# Altium integrated library Altium Database Library V2.IntLib: 825 symbols (part 33 of 40)

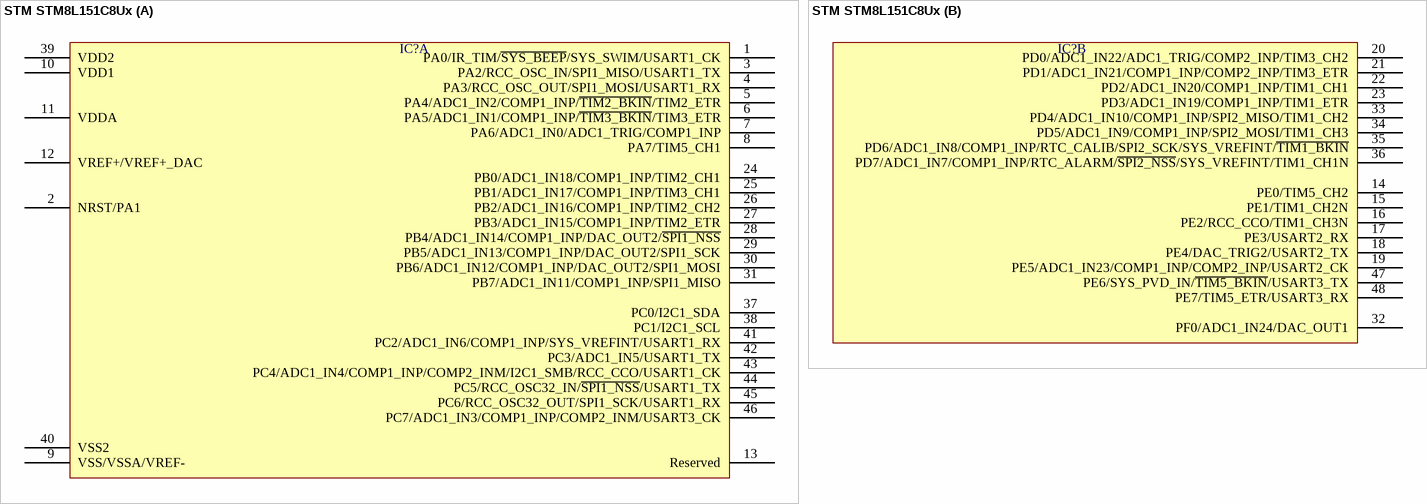
[diagram p656: symbol STM STM8L151C8Ux]

## STM STM8L151C8Ux
designator IC?  (value not drawn)
part A pins: 1 PA0/IR_TIM/~{SYS_BEEP}/SYS_SWIM/USART1_CK, 2 NRST/PA1, 3 PA2/RCC_OSC_IN/SPI1_MISO/USART1_TX, 4 PA3/RCC_OSC_OUT/SPI1_MOSI/USART1_RX, 5 PA4/ADC1_IN2/COMP1_INP/~{TIM2_BKIN}/TIM2_ETR, 6 PA5/ADC1_IN1/COMP1_INP/~{TIM3_BKIN}/TIM3_ETR, 7 PA6/ADC1_IN0/ADC1_TRIG/COMP1_INP, 8 PA7/TIM5_CH1, 9 VSS/VSSA/VREF-, 10 VDD1, 11 VDDA, 12 VREF+/VREF+_DAC, 13 Reserved, 24 PB0/ADC1_IN18/COMP1_INP/TIM2_CH1, 25 PB1/ADC1_IN17/COMP1_INP/TIM3_CH1, 26 PB2/ADC1_IN16/COMP1_INP/TIM2_CH2, 27 PB3/ADC1_IN15/COMP1_INP/TIM2_ETR, 28 PB4/ADC1_IN14/COMP1_INP/DAC_OUT2/~{SPI1_NSS}, 29 PB5/ADC1_IN13/COMP1_INP/DAC_OUT2/SPI1_SCK, 30 PB6/ADC1_IN12/COMP1_INP/DAC_OUT2/SPI1_MOSI, 31 PB7/ADC1_IN11/COMP1_INP/SPI1_MISO, 37 PC0/I2C1_SDA, 38 PC1/I2C1_SCL, 39 VDD2, 40 VSS2, 41 PC2/ADC1_IN6/COMP1_INP/SYS_VREFINT/USART1_RX, 42 PC3/ADC1_IN5/USART1_TX, 43 PC4/ADC1_IN4/COMP1_INP/COMP2_INM/I2C1_SMB/RCC_CCO/USART1_CK, 44 PC5/RCC_OSC32_IN/~{SPI1_NSS}/USART1_TX, 45 PC6/RCC_OSC32_OUT/SPI1_SCK/USART1_RX, 46 PC7/ADC1_IN3/COMP1_INP/COMP2_INM/USART3_CK
part B pins: 14 PE0/TIM5_CH2, 15 PE1/TIM1_CH2N, 16 PE2/RCC_CCO/TIM1_CH3N, 17 PE3/USART2_RX, 18 PE4/DAC_TRIG2/USART2_TX, 19 PE5/ADC1_IN23/COMP1_INP/COMP2_INP/USART2_CK, 20 PD0/ADC1_IN22/ADC1_TRIG/COMP2_INP/TIM3_CH2, 21 PD1/ADC1_IN21/COMP1_INP/COMP2_INP/TIM3_ETR, 22 PD2/ADC1_IN20/COMP1_INP/TIM1_CH1, 23 PD3/ADC1_IN19/COMP1_INP/TIM1_ETR, 32 PF0/ADC1_IN24/DAC_OUT1, 33 PD4/ADC1_IN10/COMP1_INP/SPI2_MISO/TIM1_CH2, 34 PD5/ADC1_IN9/COMP1_INP/SPI2_MOSI/TIM1_CH3, 35 PD6/ADC1_IN8/COMP1_INP/RTC_CALIB/SPI2_SCK/SYS_VREFINT/~{TIM1_BKIN}, 36 PD7/ADC1_IN7/COMP1_INP/RTC_ALARM/~{SPI2_NSS}/SYS_VREFINT/TIM1_CH1N, 47 PE6/SYS_PVD_IN/~{TIM5_BKIN}/USART3_TX, 48 PE7/TIM5_ETR/USART3_RX


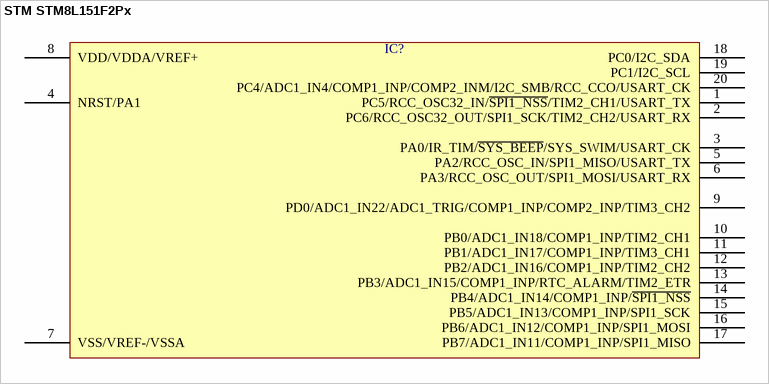
[diagram p657: symbol STM STM8L151F2Px]

## STM STM8L151F2Px
designator IC?  (value not drawn)
pins: 1 PC5/RCC_OSC32_IN/~{SPI1_NSS}/TIM2_CH1/USART_TX, 2 PC6/RCC_OSC32_OUT/SPI1_SCK/TIM2_CH2/USART_RX, 3 PA0/IR_TIM/~{SYS_BEEP}/SYS_SWIM/USART_CK, 4 NRST/PA1, 5 PA2/RCC_OSC_IN/SPI1_MISO/USART_TX, 6 PA3/RCC_OSC_OUT/SPI1_MOSI/USART_RX, 7 VSS/VREF-/VSSA, 8 VDD/VDDA/VREF+, 9 PD0/ADC1_IN22/ADC1_TRIG/COMP1_INP/COMP2_INP/TIM3_CH2, 10 PB0/ADC1_IN18/COMP1_INP/TIM2_CH1, 11 PB1/ADC1_IN17/COMP1_INP/TIM3_CH1, 12 PB2/ADC1_IN16/COMP1_INP/TIM2_CH2, 13 PB3/ADC1_IN15/COMP1_INP/RTC_ALARM/TIM2_ETR, 14 PB4/ADC1_IN14/COMP1_INP/~{SPI1_NSS}, 15 PB5/ADC1_IN13/COMP1_INP/SPI1_SCK, 16 PB6/ADC1_IN12/COMP1_INP/SPI1_MOSI, 17 PB7/ADC1_IN11/COMP1_INP/SPI1_MISO, 18 PC0/I2C_SDA, 19 PC1/I2C_SCL, 20 PC4/ADC1_IN4/COMP1_INP/COMP2_INM/I2C_SMB/RCC_CCO/USART_CK


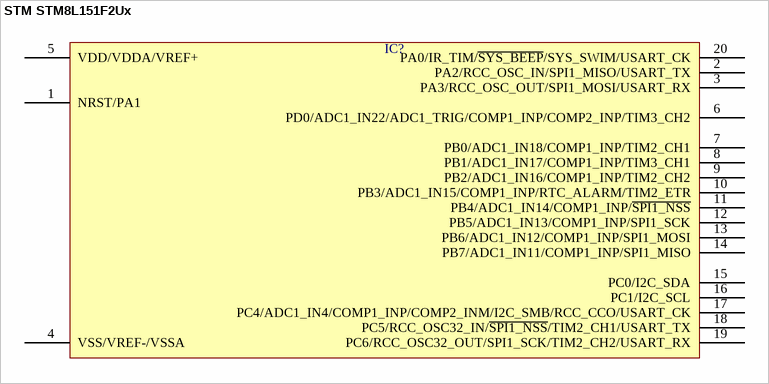
[diagram p658: symbol STM STM8L151F2Ux]

## STM STM8L151F2Ux
designator IC?  (value not drawn)
pins: 1 NRST/PA1, 2 PA2/RCC_OSC_IN/SPI1_MISO/USART_TX, 3 PA3/RCC_OSC_OUT/SPI1_MOSI/USART_RX, 4 VSS/VREF-/VSSA, 5 VDD/VDDA/VREF+, 6 PD0/ADC1_IN22/ADC1_TRIG/COMP1_INP/COMP2_INP/TIM3_CH2, 7 PB0/ADC1_IN18/COMP1_INP/TIM2_CH1, 8 PB1/ADC1_IN17/COMP1_INP/TIM3_CH1, 9 PB2/ADC1_IN16/COMP1_INP/TIM2_CH2, 10 PB3/ADC1_IN15/COMP1_INP/RTC_ALARM/TIM2_ETR, 11 PB4/ADC1_IN14/COMP1_INP/~{SPI1_NSS}, 12 PB5/ADC1_IN13/COMP1_INP/SPI1_SCK, 13 PB6/ADC1_IN12/COMP1_INP/SPI1_MOSI, 14 PB7/ADC1_IN11/COMP1_INP/SPI1_MISO, 15 PC0/I2C_SDA, 16 PC1/I2C_SCL, 17 PC4/ADC1_IN4/COMP1_INP/COMP2_INM/I2C_SMB/RCC_CCO/USART_CK, 18 PC5/RCC_OSC32_IN/~{SPI1_NSS}/TIM2_CH1/USART_TX, 19 PC6/RCC_OSC32_OUT/SPI1_SCK/TIM2_CH2/USART_RX, 20 PA0/IR_TIM/~{SYS_BEEP}/SYS_SWIM/USART_CK


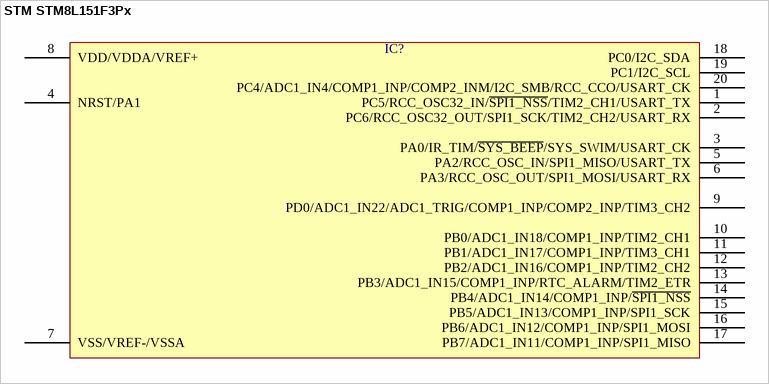
[diagram p659: symbol STM STM8L151F3Px]

## STM STM8L151F3Px
designator IC?  (value not drawn)
pins: 1 PC5/RCC_OSC32_IN/~{SPI1_NSS}/TIM2_CH1/USART_TX, 2 PC6/RCC_OSC32_OUT/SPI1_SCK/TIM2_CH2/USART_RX, 3 PA0/IR_TIM/~{SYS_BEEP}/SYS_SWIM/USART_CK, 4 NRST/PA1, 5 PA2/RCC_OSC_IN/SPI1_MISO/USART_TX, 6 PA3/RCC_OSC_OUT/SPI1_MOSI/USART_RX, 7 VSS/VREF-/VSSA, 8 VDD/VDDA/VREF+, 9 PD0/ADC1_IN22/ADC1_TRIG/COMP1_INP/COMP2_INP/TIM3_CH2, 10 PB0/ADC1_IN18/COMP1_INP/TIM2_CH1, 11 PB1/ADC1_IN17/COMP1_INP/TIM3_CH1, 12 PB2/ADC1_IN16/COMP1_INP/TIM2_CH2, 13 PB3/ADC1_IN15/COMP1_INP/RTC_ALARM/TIM2_ETR, 14 PB4/ADC1_IN14/COMP1_INP/~{SPI1_NSS}, 15 PB5/ADC1_IN13/COMP1_INP/SPI1_SCK, 16 PB6/ADC1_IN12/COMP1_INP/SPI1_MOSI, 17 PB7/ADC1_IN11/COMP1_INP/SPI1_MISO, 18 PC0/I2C_SDA, 19 PC1/I2C_SCL, 20 PC4/ADC1_IN4/COMP1_INP/COMP2_INM/I2C_SMB/RCC_CCO/USART_CK


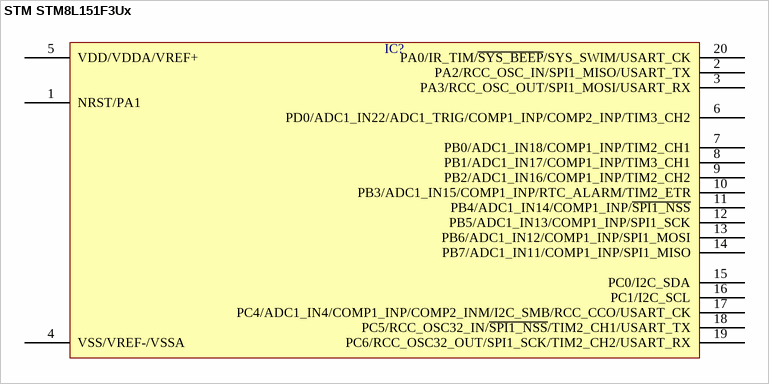
[diagram p660: symbol STM STM8L151F3Ux]

## STM STM8L151F3Ux
designator IC?  (value not drawn)
pins: 1 NRST/PA1, 2 PA2/RCC_OSC_IN/SPI1_MISO/USART_TX, 3 PA3/RCC_OSC_OUT/SPI1_MOSI/USART_RX, 4 VSS/VREF-/VSSA, 5 VDD/VDDA/VREF+, 6 PD0/ADC1_IN22/ADC1_TRIG/COMP1_INP/COMP2_INP/TIM3_CH2, 7 PB0/ADC1_IN18/COMP1_INP/TIM2_CH1, 8 PB1/ADC1_IN17/COMP1_INP/TIM3_CH1, 9 PB2/ADC1_IN16/COMP1_INP/TIM2_CH2, 10 PB3/ADC1_IN15/COMP1_INP/RTC_ALARM/TIM2_ETR, 11 PB4/ADC1_IN14/COMP1_INP/~{SPI1_NSS}, 12 PB5/ADC1_IN13/COMP1_INP/SPI1_SCK, 13 PB6/ADC1_IN12/COMP1_INP/SPI1_MOSI, 14 PB7/ADC1_IN11/COMP1_INP/SPI1_MISO, 15 PC0/I2C_SDA, 16 PC1/I2C_SCL, 17 PC4/ADC1_IN4/COMP1_INP/COMP2_INM/I2C_SMB/RCC_CCO/USART_CK, 18 PC5/RCC_OSC32_IN/~{SPI1_NSS}/TIM2_CH1/USART_TX, 19 PC6/RCC_OSC32_OUT/SPI1_SCK/TIM2_CH2/USART_RX, 20 PA0/IR_TIM/~{SYS_BEEP}/SYS_SWIM/USART_CK


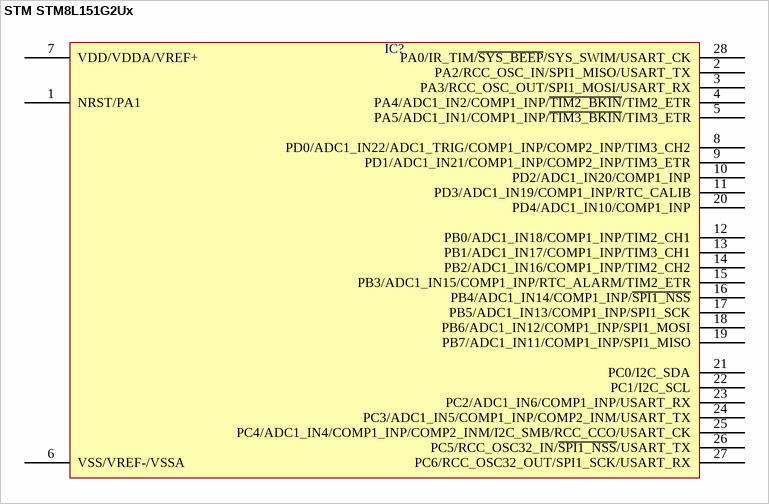
[diagram p661: symbol STM STM8L151G2Ux]

## STM STM8L151G2Ux
designator IC?  (value not drawn)
pins: 1 NRST/PA1, 2 PA2/RCC_OSC_IN/SPI1_MISO/USART_TX, 3 PA3/RCC_OSC_OUT/SPI1_MOSI/USART_RX, 4 PA4/ADC1_IN2/COMP1_INP/~{TIM2_BKIN}/TIM2_ETR, 5 PA5/ADC1_IN1/COMP1_INP/~{TIM3_BKIN}/TIM3_ETR, 6 VSS/VREF-/VSSA, 7 VDD/VDDA/VREF+, 8 PD0/ADC1_IN22/ADC1_TRIG/COMP1_INP/COMP2_INP/TIM3_CH2, 9 PD1/ADC1_IN21/COMP1_INP/COMP2_INP/TIM3_ETR, 10 PD2/ADC1_IN20/COMP1_INP, 11 PD3/ADC1_IN19/COMP1_INP/RTC_CALIB, 12 PB0/ADC1_IN18/COMP1_INP/TIM2_CH1, 13 PB1/ADC1_IN17/COMP1_INP/TIM3_CH1, 14 PB2/ADC1_IN16/COMP1_INP/TIM2_CH2, 15 PB3/ADC1_IN15/COMP1_INP/RTC_ALARM/TIM2_ETR, 16 PB4/ADC1_IN14/COMP1_INP/~{SPI1_NSS}, 17 PB5/ADC1_IN13/COMP1_INP/SPI1_SCK, 18 PB6/ADC1_IN12/COMP1_INP/SPI1_MOSI, 19 PB7/ADC1_IN11/COMP1_INP/SPI1_MISO, 20 PD4/ADC1_IN10/COMP1_INP, 21 PC0/I2C_SDA, 22 PC1/I2C_SCL, 23 PC2/ADC1_IN6/COMP1_INP/USART_RX, 24 PC3/ADC1_IN5/COMP1_INP/COMP2_INM/USART_TX, 25 PC4/ADC1_IN4/COMP1_INP/COMP2_INM/I2C_SMB/RCC_CCO/USART_CK, 26 PC5/RCC_OSC32_IN/~{SPI1_NSS}/USART_TX, 27 PC6/RCC_OSC32_OUT/SPI1_SCK/USART_RX, 28 PA0/IR_TIM/~{SYS_BEEP}/SYS_SWIM/USART_CK


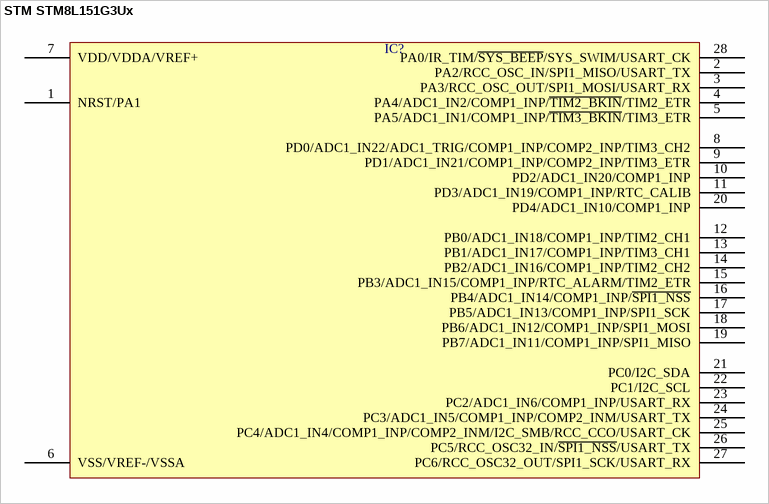
[diagram p662: symbol STM STM8L151G3Ux]

## STM STM8L151G3Ux
designator IC?  (value not drawn)
pins: 1 NRST/PA1, 2 PA2/RCC_OSC_IN/SPI1_MISO/USART_TX, 3 PA3/RCC_OSC_OUT/SPI1_MOSI/USART_RX, 4 PA4/ADC1_IN2/COMP1_INP/~{TIM2_BKIN}/TIM2_ETR, 5 PA5/ADC1_IN1/COMP1_INP/~{TIM3_BKIN}/TIM3_ETR, 6 VSS/VREF-/VSSA, 7 VDD/VDDA/VREF+, 8 PD0/ADC1_IN22/ADC1_TRIG/COMP1_INP/COMP2_INP/TIM3_CH2, 9 PD1/ADC1_IN21/COMP1_INP/COMP2_INP/TIM3_ETR, 10 PD2/ADC1_IN20/COMP1_INP, 11 PD3/ADC1_IN19/COMP1_INP/RTC_CALIB, 12 PB0/ADC1_IN18/COMP1_INP/TIM2_CH1, 13 PB1/ADC1_IN17/COMP1_INP/TIM3_CH1, 14 PB2/ADC1_IN16/COMP1_INP/TIM2_CH2, 15 PB3/ADC1_IN15/COMP1_INP/RTC_ALARM/TIM2_ETR, 16 PB4/ADC1_IN14/COMP1_INP/~{SPI1_NSS}, 17 PB5/ADC1_IN13/COMP1_INP/SPI1_SCK, 18 PB6/ADC1_IN12/COMP1_INP/SPI1_MOSI, 19 PB7/ADC1_IN11/COMP1_INP/SPI1_MISO, 20 PD4/ADC1_IN10/COMP1_INP, 21 PC0/I2C_SDA, 22 PC1/I2C_SCL, 23 PC2/ADC1_IN6/COMP1_INP/USART_RX, 24 PC3/ADC1_IN5/COMP1_INP/COMP2_INM/USART_TX, 25 PC4/ADC1_IN4/COMP1_INP/COMP2_INM/I2C_SMB/RCC_CCO/USART_CK, 26 PC5/RCC_OSC32_IN/~{SPI1_NSS}/USART_TX, 27 PC6/RCC_OSC32_OUT/SPI1_SCK/USART_RX, 28 PA0/IR_TIM/~{SYS_BEEP}/SYS_SWIM/USART_CK


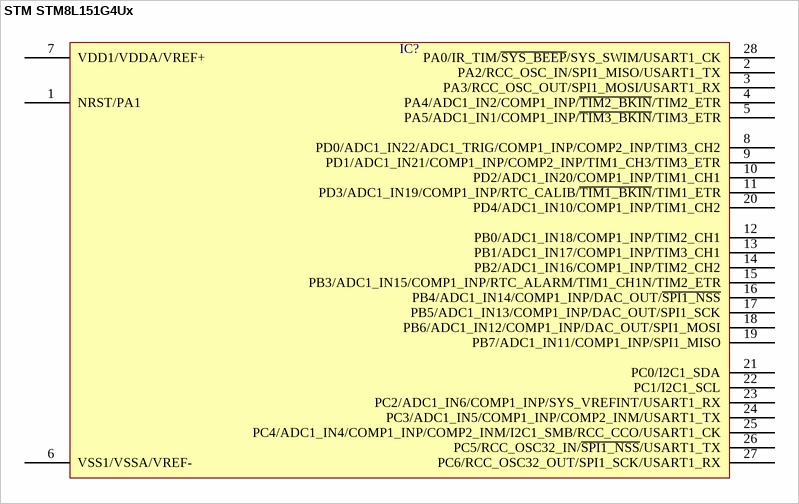
[diagram p663: symbol STM STM8L151G4Ux]

## STM STM8L151G4Ux
designator IC?  (value not drawn)
pins: 1 NRST/PA1, 2 PA2/RCC_OSC_IN/SPI1_MISO/USART1_TX, 3 PA3/RCC_OSC_OUT/SPI1_MOSI/USART1_RX, 4 PA4/ADC1_IN2/COMP1_INP/~{TIM2_BKIN}/TIM2_ETR, 5 PA5/ADC1_IN1/COMP1_INP/~{TIM3_BKIN}/TIM3_ETR, 6 VSS1/VSSA/VREF-, 7 VDD1/VDDA/VREF+, 8 PD0/ADC1_IN22/ADC1_TRIG/COMP1_INP/COMP2_INP/TIM3_CH2, 9 PD1/ADC1_IN21/COMP1_INP/COMP2_INP/TIM1_CH3/TIM3_ETR, 10 PD2/ADC1_IN20/COMP1_INP/TIM1_CH1, 11 PD3/ADC1_IN19/COMP1_INP/RTC_CALIB/~{TIM1_BKIN}/TIM1_ETR, 12 PB0/ADC1_IN18/COMP1_INP/TIM2_CH1, 13 PB1/ADC1_IN17/COMP1_INP/TIM3_CH1, 14 PB2/ADC1_IN16/COMP1_INP/TIM2_CH2, 15 PB3/ADC1_IN15/COMP1_INP/RTC_ALARM/TIM1_CH1N/TIM2_ETR, 16 PB4/ADC1_IN14/COMP1_INP/DAC_OUT/~{SPI1_NSS}, 17 PB5/ADC1_IN13/COMP1_INP/DAC_OUT/SPI1_SCK, 18 PB6/ADC1_IN12/COMP1_INP/DAC_OUT/SPI1_MOSI, 19 PB7/ADC1_IN11/COMP1_INP/SPI1_MISO, 20 PD4/ADC1_IN10/COMP1_INP/TIM1_CH2, 21 PC0/I2C1_SDA, 22 PC1/I2C1_SCL, 23 PC2/ADC1_IN6/COMP1_INP/SYS_VREFINT/USART1_RX, 24 PC3/ADC1_IN5/COMP1_INP/COMP2_INM/USART1_TX, 25 PC4/ADC1_IN4/COMP1_INP/COMP2_INM/I2C1_SMB/RCC_CCO/USART1_CK, 26 PC5/RCC_OSC32_IN/~{SPI1_NSS}/USART1_TX, 27 PC6/RCC_OSC32_OUT/SPI1_SCK/USART1_RX, 28 PA0/IR_TIM/~{SYS_BEEP}/SYS_SWIM/USART1_CK


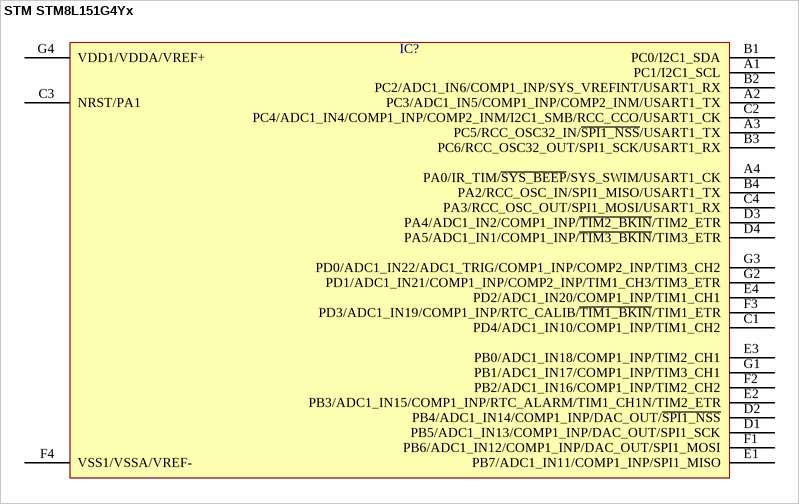
[diagram p664: symbol STM STM8L151G4Yx]

## STM STM8L151G4Yx
designator IC?  (value not drawn)
pins: A1 PC1/I2C1_SCL, A2 PC3/ADC1_IN5/COMP1_INP/COMP2_INM/USART1_TX, A3 PC5/RCC_OSC32_IN/~{SPI1_NSS}/USART1_TX, A4 PA0/IR_TIM/~{SYS_BEEP}/SYS_SWIM/USART1_CK, B1 PC0/I2C1_SDA, B2 PC2/ADC1_IN6/COMP1_INP/SYS_VREFINT/USART1_RX, B3 PC6/RCC_OSC32_OUT/SPI1_SCK/USART1_RX, B4 PA2/RCC_OSC_IN/SPI1_MISO/USART1_TX, C1 PD4/ADC1_IN10/COMP1_INP/TIM1_CH2, C2 PC4/ADC1_IN4/COMP1_INP/COMP2_INM/I2C1_SMB/RCC_CCO/USART1_CK, C3 NRST/PA1, C4 PA3/RCC_OSC_OUT/SPI1_MOSI/USART1_RX, D1 PB5/ADC1_IN13/COMP1_INP/DAC_OUT/SPI1_SCK, D2 PB4/ADC1_IN14/COMP1_INP/DAC_OUT/~{SPI1_NSS}, D3 PA4/ADC1_IN2/COMP1_INP/~{TIM2_BKIN}/TIM2_ETR, D4 PA5/ADC1_IN1/COMP1_INP/~{TIM3_BKIN}/TIM3_ETR, E1 PB7/ADC1_IN11/COMP1_INP/SPI1_MISO, E2 PB3/ADC1_IN15/COMP1_INP/RTC_ALARM/TIM1_CH1N/TIM2_ETR, E3 PB0/ADC1_IN18/COMP1_INP/TIM2_CH1, E4 PD2/ADC1_IN20/COMP1_INP/TIM1_CH1, F1 PB6/ADC1_IN12/COMP1_INP/DAC_OUT/SPI1_MOSI, F2 PB2/ADC1_IN16/COMP1_INP/TIM2_CH2, F3 PD3/ADC1_IN19/COMP1_INP/RTC_CALIB/~{TIM1_BKIN}/TIM1_ETR, F4 VSS1/VSSA/VREF-, G1 PB1/ADC1_IN17/COMP1_INP/TIM3_CH1, G2 PD1/ADC1_IN21/COMP1_INP/COMP2_INP/TIM1_CH3/TIM3_ETR, G3 PD0/ADC1_IN22/ADC1_TRIG/COMP1_INP/COMP2_INP/TIM3_CH2, G4 VDD1/VDDA/VREF+


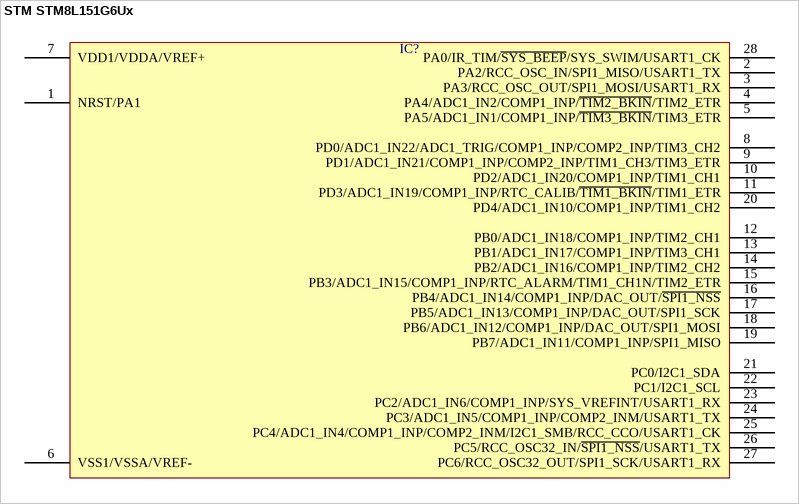
[diagram p665: symbol STM STM8L151G6Ux]

## STM STM8L151G6Ux
designator IC?  (value not drawn)
pins: 1 NRST/PA1, 2 PA2/RCC_OSC_IN/SPI1_MISO/USART1_TX, 3 PA3/RCC_OSC_OUT/SPI1_MOSI/USART1_RX, 4 PA4/ADC1_IN2/COMP1_INP/~{TIM2_BKIN}/TIM2_ETR, 5 PA5/ADC1_IN1/COMP1_INP/~{TIM3_BKIN}/TIM3_ETR, 6 VSS1/VSSA/VREF-, 7 VDD1/VDDA/VREF+, 8 PD0/ADC1_IN22/ADC1_TRIG/COMP1_INP/COMP2_INP/TIM3_CH2, 9 PD1/ADC1_IN21/COMP1_INP/COMP2_INP/TIM1_CH3/TIM3_ETR, 10 PD2/ADC1_IN20/COMP1_INP/TIM1_CH1, 11 PD3/ADC1_IN19/COMP1_INP/RTC_CALIB/~{TIM1_BKIN}/TIM1_ETR, 12 PB0/ADC1_IN18/COMP1_INP/TIM2_CH1, 13 PB1/ADC1_IN17/COMP1_INP/TIM3_CH1, 14 PB2/ADC1_IN16/COMP1_INP/TIM2_CH2, 15 PB3/ADC1_IN15/COMP1_INP/RTC_ALARM/TIM1_CH1N/TIM2_ETR, 16 PB4/ADC1_IN14/COMP1_INP/DAC_OUT/~{SPI1_NSS}, 17 PB5/ADC1_IN13/COMP1_INP/DAC_OUT/SPI1_SCK, 18 PB6/ADC1_IN12/COMP1_INP/DAC_OUT/SPI1_MOSI, 19 PB7/ADC1_IN11/COMP1_INP/SPI1_MISO, 20 PD4/ADC1_IN10/COMP1_INP/TIM1_CH2, 21 PC0/I2C1_SDA, 22 PC1/I2C1_SCL, 23 PC2/ADC1_IN6/COMP1_INP/SYS_VREFINT/USART1_RX, 24 PC3/ADC1_IN5/COMP1_INP/COMP2_INM/USART1_TX, 25 PC4/ADC1_IN4/COMP1_INP/COMP2_INM/I2C1_SMB/RCC_CCO/USART1_CK, 26 PC5/RCC_OSC32_IN/~{SPI1_NSS}/USART1_TX, 27 PC6/RCC_OSC32_OUT/SPI1_SCK/USART1_RX, 28 PA0/IR_TIM/~{SYS_BEEP}/SYS_SWIM/USART1_CK


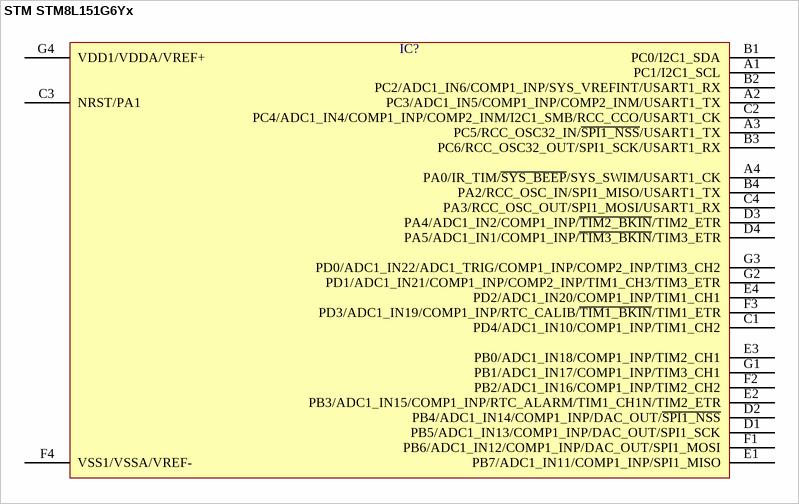
[diagram p666: symbol STM STM8L151G6Yx]

## STM STM8L151G6Yx
designator IC?  (value not drawn)
pins: A1 PC1/I2C1_SCL, A2 PC3/ADC1_IN5/COMP1_INP/COMP2_INM/USART1_TX, A3 PC5/RCC_OSC32_IN/~{SPI1_NSS}/USART1_TX, A4 PA0/IR_TIM/~{SYS_BEEP}/SYS_SWIM/USART1_CK, B1 PC0/I2C1_SDA, B2 PC2/ADC1_IN6/COMP1_INP/SYS_VREFINT/USART1_RX, B3 PC6/RCC_OSC32_OUT/SPI1_SCK/USART1_RX, B4 PA2/RCC_OSC_IN/SPI1_MISO/USART1_TX, C1 PD4/ADC1_IN10/COMP1_INP/TIM1_CH2, C2 PC4/ADC1_IN4/COMP1_INP/COMP2_INM/I2C1_SMB/RCC_CCO/USART1_CK, C3 NRST/PA1, C4 PA3/RCC_OSC_OUT/SPI1_MOSI/USART1_RX, D1 PB5/ADC1_IN13/COMP1_INP/DAC_OUT/SPI1_SCK, D2 PB4/ADC1_IN14/COMP1_INP/DAC_OUT/~{SPI1_NSS}, D3 PA4/ADC1_IN2/COMP1_INP/~{TIM2_BKIN}/TIM2_ETR, D4 PA5/ADC1_IN1/COMP1_INP/~{TIM3_BKIN}/TIM3_ETR, E1 PB7/ADC1_IN11/COMP1_INP/SPI1_MISO, E2 PB3/ADC1_IN15/COMP1_INP/RTC_ALARM/TIM1_CH1N/TIM2_ETR, E3 PB0/ADC1_IN18/COMP1_INP/TIM2_CH1, E4 PD2/ADC1_IN20/COMP1_INP/TIM1_CH1, F1 PB6/ADC1_IN12/COMP1_INP/DAC_OUT/SPI1_MOSI, F2 PB2/ADC1_IN16/COMP1_INP/TIM2_CH2, F3 PD3/ADC1_IN19/COMP1_INP/RTC_CALIB/~{TIM1_BKIN}/TIM1_ETR, F4 VSS1/VSSA/VREF-, G1 PB1/ADC1_IN17/COMP1_INP/TIM3_CH1, G2 PD1/ADC1_IN21/COMP1_INP/COMP2_INP/TIM1_CH3/TIM3_ETR, G3 PD0/ADC1_IN22/ADC1_TRIG/COMP1_INP/COMP2_INP/TIM3_CH2, G4 VDD1/VDDA/VREF+


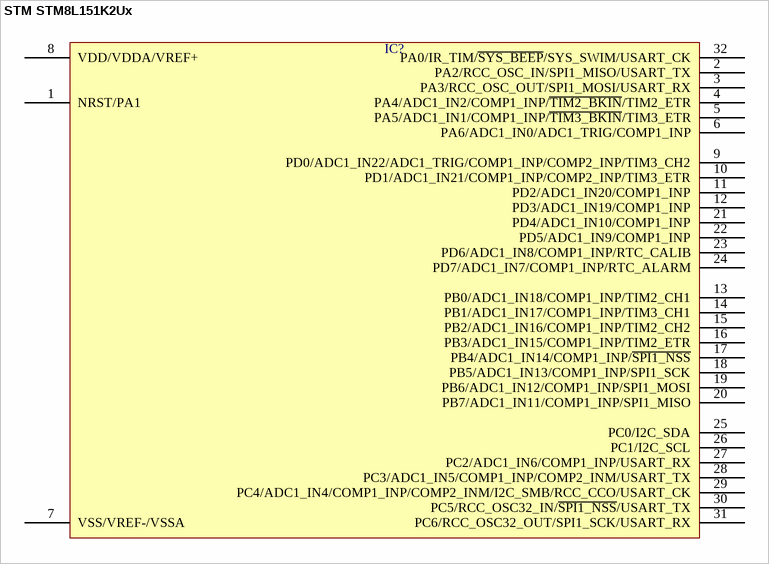
[diagram p667: symbol STM STM8L151K2Ux]

## STM STM8L151K2Ux
designator IC?  (value not drawn)
pins: 1 NRST/PA1, 2 PA2/RCC_OSC_IN/SPI1_MISO/USART_TX, 3 PA3/RCC_OSC_OUT/SPI1_MOSI/USART_RX, 4 PA4/ADC1_IN2/COMP1_INP/~{TIM2_BKIN}/TIM2_ETR, 5 PA5/ADC1_IN1/COMP1_INP/~{TIM3_BKIN}/TIM3_ETR, 6 PA6/ADC1_IN0/ADC1_TRIG/COMP1_INP, 7 VSS/VREF-/VSSA, 8 VDD/VDDA/VREF+, 9 PD0/ADC1_IN22/ADC1_TRIG/COMP1_INP/COMP2_INP/TIM3_CH2, 10 PD1/ADC1_IN21/COMP1_INP/COMP2_INP/TIM3_ETR, 11 PD2/ADC1_IN20/COMP1_INP, 12 PD3/ADC1_IN19/COMP1_INP, 13 PB0/ADC1_IN18/COMP1_INP/TIM2_CH1, 14 PB1/ADC1_IN17/COMP1_INP/TIM3_CH1, 15 PB2/ADC1_IN16/COMP1_INP/TIM2_CH2, 16 PB3/ADC1_IN15/COMP1_INP/TIM2_ETR, 17 PB4/ADC1_IN14/COMP1_INP/~{SPI1_NSS}, 18 PB5/ADC1_IN13/COMP1_INP/SPI1_SCK, 19 PB6/ADC1_IN12/COMP1_INP/SPI1_MOSI, 20 PB7/ADC1_IN11/COMP1_INP/SPI1_MISO, 21 PD4/ADC1_IN10/COMP1_INP, 22 PD5/ADC1_IN9/COMP1_INP, 23 PD6/ADC1_IN8/COMP1_INP/RTC_CALIB, 24 PD7/ADC1_IN7/COMP1_INP/RTC_ALARM, 25 PC0/I2C_SDA, 26 PC1/I2C_SCL, 27 PC2/ADC1_IN6/COMP1_INP/USART_RX, 28 PC3/ADC1_IN5/COMP1_INP/COMP2_INM/USART_TX, 29 PC4/ADC1_IN4/COMP1_INP/COMP2_INM/I2C_SMB/RCC_CCO/USART_CK, 30 PC5/RCC_OSC32_IN/~{SPI1_NSS}/USART_TX, 31 PC6/RCC_OSC32_OUT/SPI1_SCK/USART_RX, 32 PA0/IR_TIM/~{SYS_BEEP}/SYS_SWIM/USART_CK


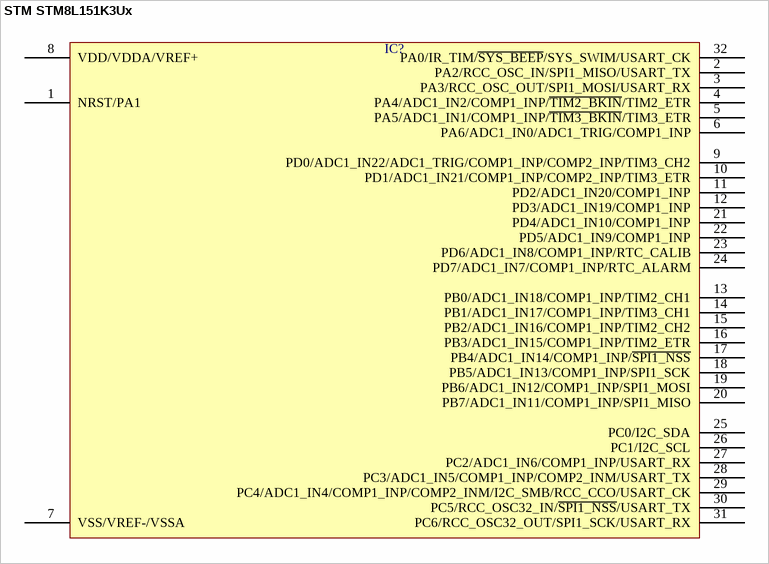
[diagram p668: symbol STM STM8L151K3Ux]

## STM STM8L151K3Ux
designator IC?  (value not drawn)
pins: 1 NRST/PA1, 2 PA2/RCC_OSC_IN/SPI1_MISO/USART_TX, 3 PA3/RCC_OSC_OUT/SPI1_MOSI/USART_RX, 4 PA4/ADC1_IN2/COMP1_INP/~{TIM2_BKIN}/TIM2_ETR, 5 PA5/ADC1_IN1/COMP1_INP/~{TIM3_BKIN}/TIM3_ETR, 6 PA6/ADC1_IN0/ADC1_TRIG/COMP1_INP, 7 VSS/VREF-/VSSA, 8 VDD/VDDA/VREF+, 9 PD0/ADC1_IN22/ADC1_TRIG/COMP1_INP/COMP2_INP/TIM3_CH2, 10 PD1/ADC1_IN21/COMP1_INP/COMP2_INP/TIM3_ETR, 11 PD2/ADC1_IN20/COMP1_INP, 12 PD3/ADC1_IN19/COMP1_INP, 13 PB0/ADC1_IN18/COMP1_INP/TIM2_CH1, 14 PB1/ADC1_IN17/COMP1_INP/TIM3_CH1, 15 PB2/ADC1_IN16/COMP1_INP/TIM2_CH2, 16 PB3/ADC1_IN15/COMP1_INP/TIM2_ETR, 17 PB4/ADC1_IN14/COMP1_INP/~{SPI1_NSS}, 18 PB5/ADC1_IN13/COMP1_INP/SPI1_SCK, 19 PB6/ADC1_IN12/COMP1_INP/SPI1_MOSI, 20 PB7/ADC1_IN11/COMP1_INP/SPI1_MISO, 21 PD4/ADC1_IN10/COMP1_INP, 22 PD5/ADC1_IN9/COMP1_INP, 23 PD6/ADC1_IN8/COMP1_INP/RTC_CALIB, 24 PD7/ADC1_IN7/COMP1_INP/RTC_ALARM, 25 PC0/I2C_SDA, 26 PC1/I2C_SCL, 27 PC2/ADC1_IN6/COMP1_INP/USART_RX, 28 PC3/ADC1_IN5/COMP1_INP/COMP2_INM/USART_TX, 29 PC4/ADC1_IN4/COMP1_INP/COMP2_INM/I2C_SMB/RCC_CCO/USART_CK, 30 PC5/RCC_OSC32_IN/~{SPI1_NSS}/USART_TX, 31 PC6/RCC_OSC32_OUT/SPI1_SCK/USART_RX, 32 PA0/IR_TIM/~{SYS_BEEP}/SYS_SWIM/USART_CK


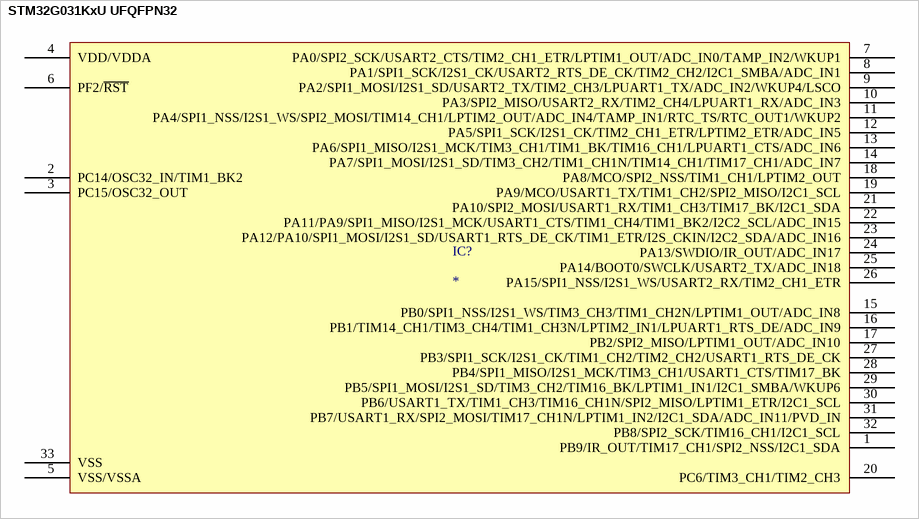
[diagram p669: symbol  STM32G031KxU UFQFPN32]

##  STM32G031KxU UFQFPN32
designator IC?
pins: 1 PB9/IR_OUT/TIM17_CH1/SPI2_NSS/I2C1_SDA, 2 PC14/OSC32_IN/TIM1_BK2, 3 PC15/OSC32_OUT, 4 VDD/VDDA, 5 VSS/VSSA, 6 PF2/~{RST}, 7 PA0/SPI2_SCK/USART2_CTS/TIM2_CH1_ETR/LPTIM1_OUT/ADC_IN0/TAMP_IN2/WKUP1, 8 PA1/SPI1_SCK/I2S1_CK/USART2_RTS_DE_CK/TIM2_CH2/I2C1_SMBA/ADC_IN1, 9 PA2/SPI1_MOSI/I2S1_SD/USART2_TX/TIM2_CH3/LPUART1_TX/ADC_IN2/WKUP4/LSCO, 10 PA3/SPI2_MISO/USART2_RX/TIM2_CH4/LPUART1_RX/ADC_IN3, 11 PA4/SPI1_NSS/I2S1_WS/SPI2_MOSI/TIM14_CH1/LPTIM2_OUT/ADC_IN4/TAMP_IN1/RTC_TS/RTC_OUT1/WKUP2, 12 PA5/SPI1_SCK/I2S1_CK/TIM2_CH1_ETR/LPTIM2_ETR/ADC_IN5, 13 PA6/SPI1_MISO/I2S1_MCK/TIM3_CH1/TIM1_BK/TIM16_CH1/LPUART1_CTS/ADC_IN6, 14 PA7/SPI1_MOSI/I2S1_SD/TIM3_CH2/TIM1_CH1N/TIM14_CH1/TIM17_CH1/ADC_IN7, 15 PB0/SPI1_NSS/I2S1_WS/TIM3_CH3/TIM1_CH2N/LPTIM1_OUT/ADC_IN8, 16 PB1/TIM14_CH1/TIM3_CH4/TIM1_CH3N/LPTIM2_IN1/LPUART1_RTS_DE/ADC_IN9, 17 PB2/SPI2_MISO/LPTIM1_OUT/ADC_IN10, 18 PA8/MCO/SPI2_NSS/TIM1_CH1/LPTIM2_OUT, 19 PA9/MCO/USART1_TX/TIM1_CH2/SPI2_MISO/I2C1_SCL, 20 PC6/TIM3_CH1/TIM2_CH3, 21 PA10/SPI2_MOSI/USART1_RX/TIM1_CH3/TIM17_BK/I2C1_SDA, 22 PA11/PA9/SPI1_MISO/I2S1_MCK/USART1_CTS/TIM1_CH4/TIM1_BK2/I2C2_SCL/ADC_IN15, 23 PA12/PA10/SPI1_MOSI/I2S1_SD/USART1_RTS_DE_CK/TIM1_ETR/I2S_CKIN/I2C2_SDA/ADC_IN16, 24 PA13/SWDIO/IR_OUT/ADC_IN17, 25 PA14/BOOT0/SWCLK/USART2_TX/ADC_IN18, 26 PA15/SPI1_NSS/I2S1_WS/USART2_RX/TIM2_CH1_ETR, 27 PB3/SPI1_SCK/I2S1_CK/TIM1_CH2/TIM2_CH2/USART1_RTS_DE_CK, 28 PB4/SPI1_MISO/I2S1_MCK/TIM3_CH1/USART1_CTS/TIM17_BK, 29 PB5/SPI1_MOSI/I2S1_SD/TIM3_CH2/TIM16_BK/LPTIM1_IN1/I2C1_SMBA/WKUP6, 30 PB6/USART1_TX/TIM1_CH3/TIM16_CH1N/SPI2_MISO/LPTIM1_ETR/I2C1_SCL, 31 PB7/USART1_RX/SPI2_MOSI/TIM17_CH1N/LPTIM1_IN2/I2C1_SDA/ADC_IN11/PVD_IN, 32 PB8/SPI2_SCK/TIM16_CH1/I2C1_SCL, 33 VSS


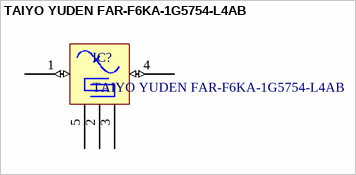
[diagram p670: symbol TAIYO YUDEN FAR-F6KA-1G5754-L4AB]

## TAIYO YUDEN FAR-F6KA-1G5754-L4AB
designator IC?
GPS SAW Filter Taiyo Yuden
pins: 1 IN (io) "Desc1", 2 GND "Desc1", 3 GND "Desc1", 4 OUT (io) "Desc1", 5 GND "Desc1"


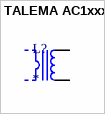
[diagram p671: symbol TALEMA AC1xxx]

## TALEMA AC1xxx
designator L?
pins: 1, 2


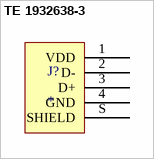
[diagram p672: symbol TE 1932638-3]

## TE 1932638-3
designator J?
pins: 1 VDD, 2 D-, 3 D+, 4 GND, S SHIELD


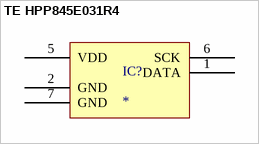
[diagram p673: symbol TE HPP845E031R4]

## TE HPP845E031R4
designator IC?
pins: 1 DATA, 2 GND, 5 VDD, 6 SCK, 7 GND


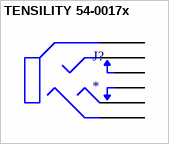
[diagram p674: symbol TENSILITY 54-0017x]

## TENSILITY 54-0017x
designator J?
pins: 1 SLEEVE, 2 RING 2, 3 RING 1, 4 TIP, 5 TIP, 6 TIP


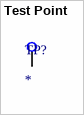
[diagram p675: symbol Test Point]

## Test Point
designator TP?
pins: 1 TP


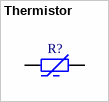
[diagram p676: symbol Thermistor]

## Thermistor
designator R?
SMT Resistor
pins: 1, 2


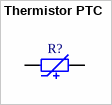
[diagram p677: symbol Thermistor PTC]

## Thermistor PTC
designator R?
SMT Resistor
pins: 1, 2


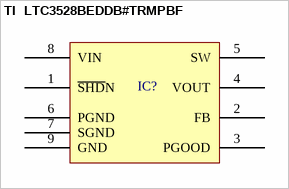
[diagram p678: symbol TI  LTC3528BEDDB#TRMPBF]

## TI  LTC3528BEDDB#TRMPBF
designator IC?
pins: 1 ~{SHD}N, 2 FB, 3 PGOOD, 4 VOUT, 5 SW, 6 PGND, 7 SGND, 8 VIN, 9 GND (power)
